# Altium schematic symbol library SBC5.SchLib: 66 symbols (part 4 of 4)
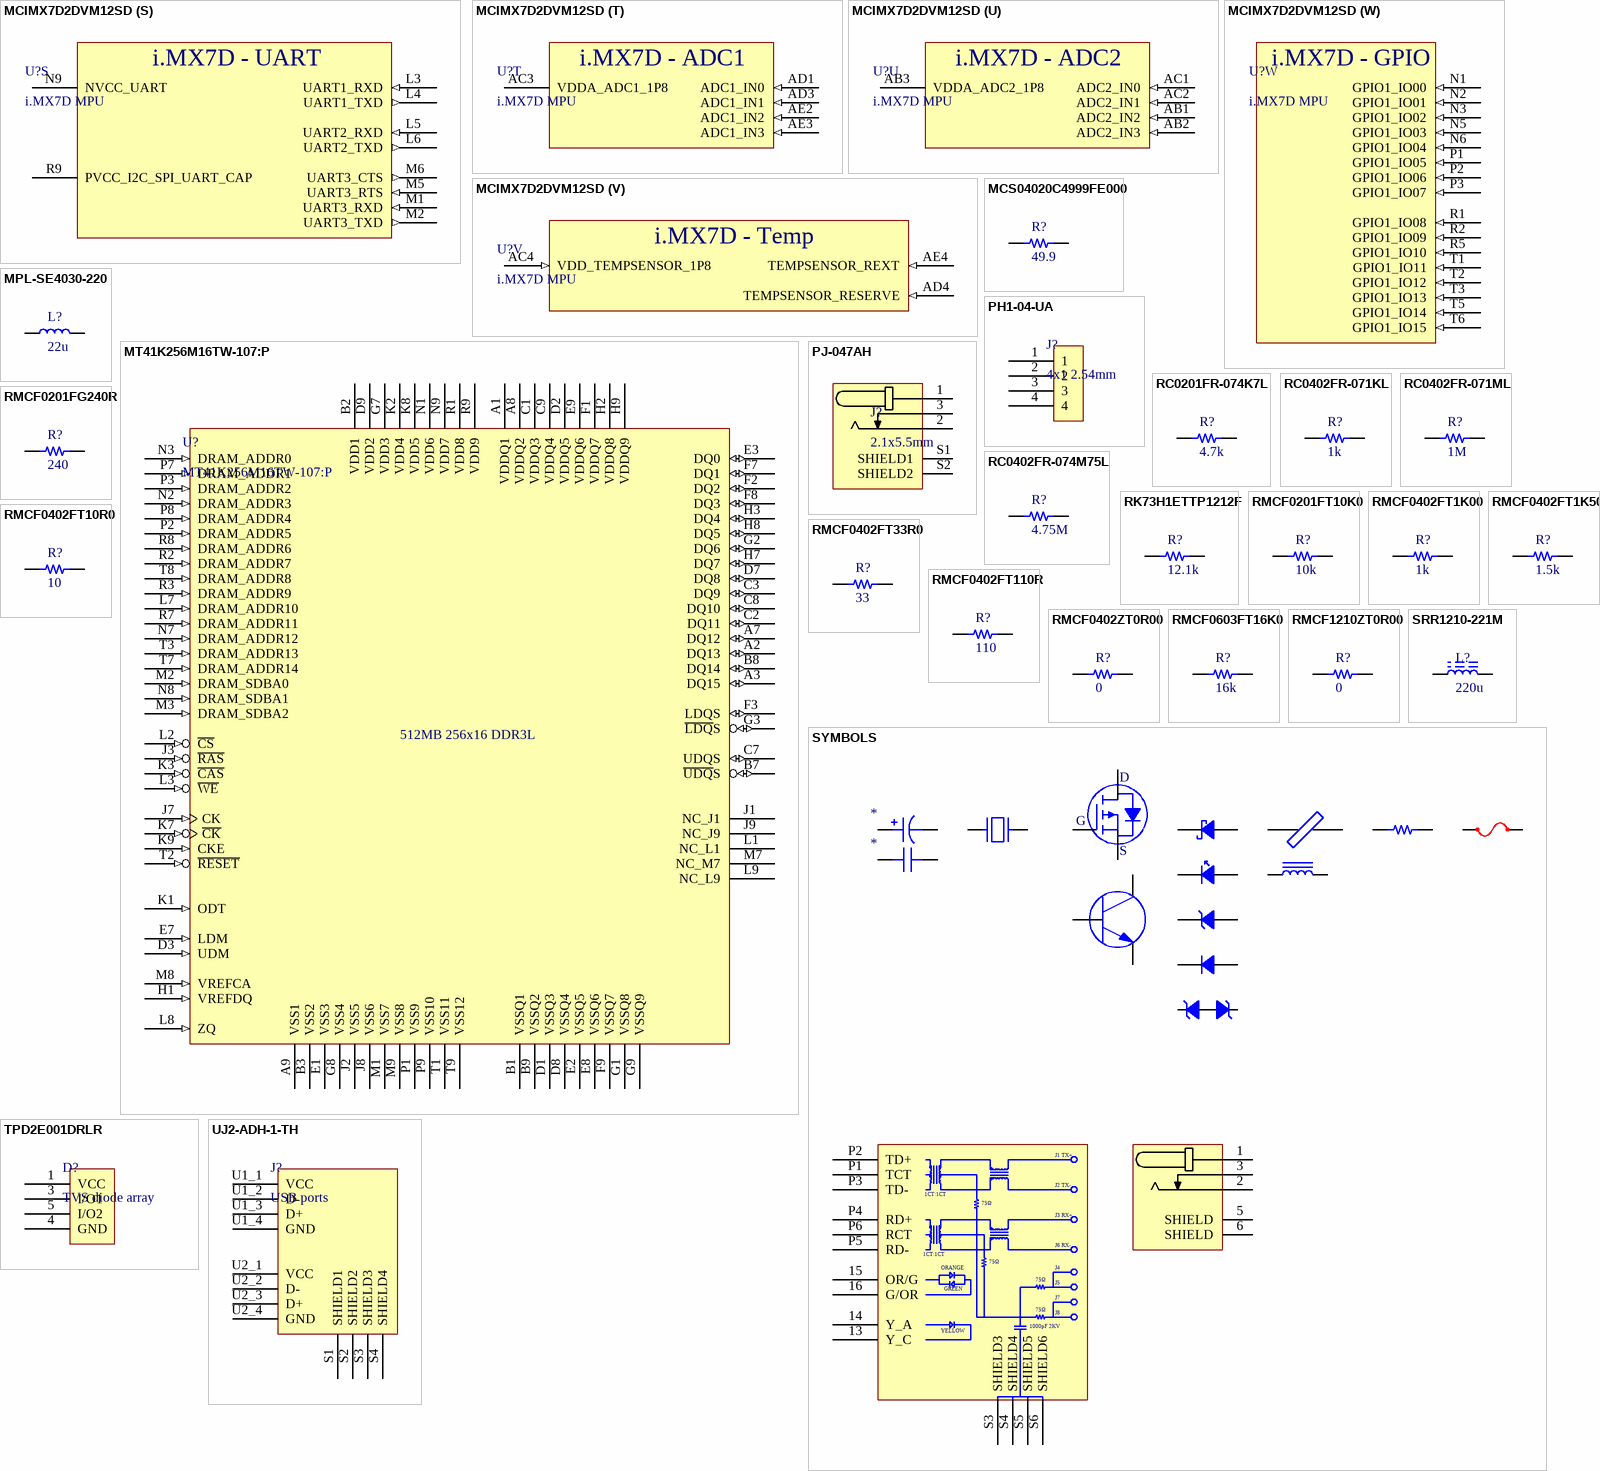
[diagram p6: symbols MCIMX7D2DVM12SD to UJ2-ADH-1-TH]

## RC0201FR-074K7L
designator R?, comment 4.7k
GENERAL 0201 11% REEL (7INCH); Manufacturer: Yageo; Manufacturer Part Number: RC0201FR-074K7L; Resistance: 4.7kR; Tolerance: 1%; Temperature Coefficient: 200ppm/°C; Power Rating: 50mW; Voltage Rating: 25V; Supplier 1: Digi-Key; Supplier Part Number 1: 311-4.70KMCT-ND; RoHS: Yes; Category: Chip SMD Resistors; Stock 1: 1942576; Pricing 1: 1=0.10000, 10=0.03600, 100=0.01480, 1000=0.00665, 2500=0.00577, 5000=0.00477 (USD); Case/Package: 0201; Contact Plating: Tin,Matte; Case Code (Metric): 0603; Case Code (Imperial): 0201; Weight: 6E-06oz; Size Code: 0201; Min Operating Temperature: -55°C; Max Operating Temperature: 125°C; Resistor Type: Thick Film; Packaging: Tape and Reel; Package Quantity: 1; Number of Terminations: 2; Termination: SMD/SMT; Max Power Dissipation: 50mW; Features: Moisture Resistant; Series: RC; Resistance Tolerance: 1%; Construction: Rectangular; Length: 0.6mm; Width: 0.012inch; Height: 0.01inch; Depth: 0.3mm; Radiation Hardening: No; REACH SVHC: Unknown; Military Standard: Not; Lead Free: Lead Free; RoHS Compliant: Yes; ComponentLink1URL: https://datasheet.ciiva.com/2493/pyu-r-int-thick-7-2493811.pdf?src-supplier=Digi-Key; ComponentLink1Description: https://datasheet.ciiva.com/2493/pyu-r-int-thick-7-2493811.pdf?src-supplier=Digi-Key; ComponentLink2URL: https://datasheet.ciiva.com/2493/pyu-r-int-thick-7-2493812.pdf?src-supplier=Digi-Key; ComponentLink2Description: https://datasheet.ciiva.com/2493/pyu-r-int-thick-7-2493812.pdf?src-supplier=Digi-Key; ComponentLink3URL: https://datasheet.ciiva.com/2493/pyu-r-int-thick-7-2493813.pdf?src-supplier=Digi-Key; ComponentLink3Description: https://datasheet.ciiva.com/2493/pyu-r-int-thick-7-2493813.pdf?src-supplier=Digi-Key; ComponentLink4URL: https://datasheet.ciiva.com/7672/1563626-7672233.pdf?src-supplier=Element14; ComponentLink4Description: https://datasheet.ciiva.com/7672/1563626-7672233.pdf?src-supplier=Element14; ComponentLink5URL: https://datasheet.ciiva.com/28410/pyu-rc0201-51-rohs-l-8-28410061.pdf?src-supplier=Avnet+Europe; ComponentLink5Description: https://datasheet.ciiva.com/28410/pyu-rc0201-51-rohs-l-8-28410061.pdf?src-supplier=Avnet+Europe; ComponentLink6URL: https://datasheet.ciiva.com/8892/pyu-rc0201-51-rohs-l-8-8892942.pdf?src-supplier=Avnet; ComponentLink6Description: https://datasheet.ciiva.com/8892/pyu-rc0201-51-rohs-l-8-8892942.pdf?src-supplier=Avnet
footprint R0201 (Chip Resistor, 2-Leads, Body 0.60x0.30mm, IPC Medium Density)
pins: 1, 2

## RC0402FR-071KL
designator R?, comment 1k
Surface Mount Chip Resistor, Thick Film, RC Series, 1 kohm, 62.5 mW, 1%, 50 V, 0402 [1005 Metric]; Manufacturer: Yageo; Manufacturer Part Number: RC0402FR-071KL; Resistance: 1kR; Temperature Coefficient: 100ppm/°C; Voltage Rating (DC): 50V; Power Rating: 62.5mW; Max Power Dissipation: 63mW; Supplier 1: Digi-Key; Supplier Part Number 1: 311-1.00KLRCT-ND; RoHS: Yes; Category: Chip SMD Resistors; Stock 1: 31899023; Pricing 1: 1=0.10000, 10=0.01600, 100=0.00640, 1000=0.00286, 2500=0.00248, 5000=0.00205 (USD); Case/Package: 0402; Number of Pins: 2; Case Code (Imperial): 0402; Case Code (Metric): 1005; Size Code: 0402; Min Operating Temperature: -55°C; Max Operating Temperature: 155°C; Resistor Type: Thick Film; Tolerance: 1%; Packaging: Tape and Reel; Voltage Rating: 50V; Termination: SMD/SMT; Features: Moisture Resistant; Series: RC; Number of Terminations: 2; Resistance Tolerance: 1%; Construction: Rectangular; Technology: THICK FILM; Length: 1mm; Width: 0.5mm; Height: 0.32mm; Depth: 0.5mm; REACH SVHC: Unknown; Lead Free: Lead Free; RoHS Compliant: Yes; Military Standard: Not; ComponentLink1URL: https://datasheet.ciiva.com/11819/0900766b80c66297-11819477.pdf?src-supplier=RSComponents; ComponentLink1Description: https://datasheet.ciiva.com/11819/0900766b80c66297-11819477.pdf?src-supplier=RSComponents; ComponentLink2URL: https://datasheet.ciiva.com/12666/pyu-rc0402-51-rohs-l-6-r-12666741.pdf?src-supplier=Mouser; ComponentLink2Description: https://datasheet.ciiva.com/12666/pyu-rc0402-51-rohs-l-6-r-12666741.pdf?src-supplier=Mouser; ComponentLink3URL: https://datasheet.ciiva.com/17063/pyu-rc0402-51-rohs-l-6-r-17063193.pdf?src-supplier=Future+Electronics; ComponentLink3Description: https://datasheet.ciiva.com/17063/pyu-rc0402-51-rohs-l-6-r-17063193.pdf?src-supplier=Future+Electronics; ComponentLink4URL: https://datasheet.ciiva.com/22747/1018594-22747513.pdf?src-supplier=Element14; ComponentLink4Description: https://datasheet.ciiva.com/22747/1018594-22747513.pdf?src-supplier=Element14; ComponentLink5URL: https://datasheet.ciiva.com/7849/1018594-7849869.pdf?src-supplier=Element14; ComponentLink5Description: https://datasheet.ciiva.com/7849/1018594-7849869.pdf?src-supplier=Element14; ComponentLink6URL: https://datasheet.ciiva.com/7983/1018594-7983502.pdf?src-supplier=Element14; ComponentLink6Description: https://datasheet.ciiva.com/7983/1018594-7983502.pdf?src-supplier=Element14; ComponentLink7URL: https://datasheet.ciiva.com/7849/1018594-7849871.pdf?src-supplier=Element14; ComponentLink7Description: https://datasheet.ciiva.com/7849/1018594-7849871.pdf?src-supplier=Element14
footprint R0402
pins: 1, 2

## RC0402FR-071ML
designator R?, comment 1M
RES SMD 1M OHM 1% 1/16W 0402; Manufacturer: Yageo; Manufacturer Part Number: RC0402FR-071ML; Resistance: 1MR; Power Rating: 63mW; Voltage Rating: 50V; Temperature Coefficient: 100ppm/°C; Supplier 1: Arrow Electronics; Supplier Part Number 1: RC0402FR-071ML; RoHS: Yes; Category: Chip SMD Resistors; Stock 1: 2720000; Pricing 1: 1=0.092200, 10=0.011400, 25=0.009100, 100=0.003800, 250=0.003700, 500=0.003100, 1000=0.002300, 3000=0.002000, 10000=0.001300, 30000=0.001300, 50000=0.001200 (USD); Case/Package: 0402; Case Code (Imperial): 0402; Case Code (Metric): 1005; Size Code: 0402; Min Operating Temperature: -55°C; Max Operating Temperature: 155°C; Resistor Type: Thick Film; Packaging: Tape and Reel; Tolerance: 1%; Termination: SMD/SMT; Features: Moisture Resistant; Series: RC; Max Power Dissipation: 63mW; Number of Terminations: 2; Resistance Tolerance: 1%; Construction: Rectangular; Technology: THICK FILM; Length: 1mm; Height: 0.32mm; Depth: 0.5mm; RoHS Compliant: Yes; REACH SVHC: Unknown; Military Standard: Not; Lead Free: Lead Free; ComponentLink1URL: https://datasheet.ciiva.com/11808/0900766b80c66297-11808125.pdf?src-supplier=RSComponents; ComponentLink1Description: https://datasheet.ciiva.com/11808/0900766b80c66297-11808125.pdf?src-supplier=RSComponents; ComponentLink2URL: https://datasheet.ciiva.com/46394/1018594-46394951.pdf?src-supplier=Element14; ComponentLink2Description: https://datasheet.ciiva.com/46394/1018594-46394951.pdf?src-supplier=Element14; ComponentLink3URL: https://datasheet.ciiva.com/7849/1018594-7849883.pdf?src-supplier=Element14; ComponentLink3Description: https://datasheet.ciiva.com/7849/1018594-7849883.pdf?src-supplier=Element14; ComponentLink4URL: https://datasheet.ciiva.com/16741/pyu-rc0402-51-rohs-l-6-r-16741081.pdf?src-supplier=Future+Electronics; ComponentLink4Description: https://datasheet.ciiva.com/16741/pyu-rc0402-51-rohs-l-6-r-16741081.pdf?src-supplier=Future+Electronics; ComponentLink5URL: https://datasheet.ciiva.com/7849/1018594-7849882.pdf?src-supplier=Element14; ComponentLink5Description: https://datasheet.ciiva.com/7849/1018594-7849882.pdf?src-supplier=Element14
footprint R0402
pins: 1, 2

## RC0402FR-074M75L
designator R?, comment 4.75M
Thick Film Resistors - SMD 4.75M OHM 1%; Manufacturer: Yageo; Manufacturer Part Number: RC0402FR-074M75L; Resistance: 4.75MR; Temperature Coefficient: 100ppm/°C; Power Rating: 62.5mW; Voltage Rating: 50V; Max Power Dissipation: 63mW; Supplier 1: Digi-Key; Supplier Part Number 1: 13-RC0402FR-074M75LCT-ND; RoHS: Yes; Category: Chip SMD Resistors; Stock 1: 19791; Pricing 1: 1=0.10000, 10=0.01400, 100=0.00580, 1000=0.00260, 2500=0.00226, 5000=0.00186 (USD); Case/Package: 0402; Contact Plating: Tin,Matte; Case Code (Imperial): 0402; Case Code (Metric): 1005; Min Operating Temperature: -55°C; Max Operating Temperature: 155°C; Tolerance: 1%; Resistor Type: Thick Film; Packaging: Tape and Reel; Number of Terminations: 2; Termination: SMD/SMT; Features: Moisture Resistant; Series: RC; Length: 0.039inch; Width: 0.02inch; Height: 0.016inch; RoHS Compliant: Yes; ComponentLink1URL: https://datasheet.ciiva.com/28409/pyu-rc0402-51-rohs-l-6-28409879.pdf?src-supplier=Avnet+Europe; ComponentLink1Description: https://datasheet.ciiva.com/28409/pyu-rc0402-51-rohs-l-6-28409879.pdf?src-supplier=Avnet+Europe; ComponentLink2URL: https://datasheet.ciiva.com/16867/pyu-rc0402-51-rohs-l-6-16867754.pdf?src-supplier=Avnet+Europe; ComponentLink2Description: https://datasheet.ciiva.com/16867/pyu-rc0402-51-rohs-l-6-16867754.pdf?src-supplier=Avnet+Europe; ComponentLink3URL: https://datasheet.ciiva.com/12560/pyu-rc0402-51-rohs-l-6-r-8721-12560812.pdf?src-supplier=Mouser; ComponentLink3Description: https://datasheet.ciiva.com/12560/pyu-rc0402-51-rohs-l-6-r-8721-12560812.pdf?src-supplier=Mouser; ComponentLink4URL: https://datasheet.ciiva.com/8892/pyu-rc0402-51-rohs-l-6-8892877.pdf?src-supplier=Avnet; ComponentLink4Description: https://datasheet.ciiva.com/8892/pyu-rc0402-51-rohs-l-6-8892877.pdf?src-supplier=Avnet
footprint R0402
pins: 1, 2

## RK73H1ETTP1212F
designator R?, comment 12.1k
Res Thick Film 0402 12.1K Ohm 1% 0.063W ±100ppm/°C Molded SMD Punched Paper T/R; Manufacturer: KOA Speer; Manufacturer Part Number: RK73H1ETTP1212F; Resistance: 12.1kR; Power Rating: 63mW; Voltage Rating: 50V; Supplier 1: Digi-Key; Supplier Part Number 1: 2019-RK73H1ETTP1212FCT-ND; RoHS: Yes; Category: Chip SMD Resistors; Stock 1: 203450; Pricing 1: 1=0.10000, 10=0.02200, 100=0.00890, 1000=0.00398, 2500=0.00345, 5000=0.00285 (USD); Mount: Surface Mount; Case/Package: 0402; Case Code (Imperial): 0402; Case Code (Metric): 1005; Min Operating Temperature: -55°C; Max Operating Temperature: 155°C; Tolerance: 1%; Packaging: Tape and Reel; Package Quantity: 10000; Resistor Type: Thick Film; Termination: SMD/SMT; Temperature Coefficient: 100ppm/°C; Voltage Rating (DC): 50V; Length: 1mm; Width: 0.5mm; Height: 0.35mm; Depth: 0.5mm; Military Standard: Not; Lead Free: Lead Free; ComponentLink1URL: https://datasheet.ciiva.com/5555/rk73h-5555974.pdf?src-supplier=Mouser; ComponentLink1Description: https://datasheet.ciiva.com/5555/rk73h-5555974.pdf?src-supplier=Mouser
footprint R0402
pins: 1, 2

## RMCF0201FG240R
designator R?, comment 240
RES 240 OHM 1% 1/20W 0201; Manufacturer: Stackpole Electronics; Manufacturer Part Number: RMCF0201FG240R; Max Power Dissipation: 50mW; Temperature Coefficient: 200ppm/°C; Resistance: 240R; Supplier 1: Digi-Key; RoHS: Yes; Category: Chip SMD Resistors; Stock 1: 229468; Pricing 1: 1=0.10000, 10=0.02300, 100=0.00940, 1000=0.00424, 2500=0.00368, 5000=0.00304 (USD); Case/Package: 0201; Case Code (Imperial): 0201; Case Code (Metric): 0603; Min Operating Temperature: -55°C; Max Operating Temperature: 125°C; Tolerance: 1%; Packaging: Tape and Reel; Resistor Type: Thick Film; Number of Terminations: 2; Length: 0.024inch; Width: 0.012inch; Height: 0.009inch; ComponentLink1URL: https://www.seielect.com/Catalog/SEI-RMCF_RMCP.pdf?src-supplier=Digi-Key; ComponentLink1Description: https://www.seielect.com/Catalog/SEI-RMCF_RMCP.pdf?src-supplier=Digi-Key; ComponentLink2URL: https://www.seielect.com/catalog/SEI-Packaging.pdf?src-supplier=Digi-Key; ComponentLink2Description: https://www.seielect.com/catalog/SEI-Packaging.pdf?src-supplier=Digi-Key; Supplier Part Number 1: RMCF0201FG240RCT-ND
footprint R0201 (Chip Resistor, 2-Leads, Body 0.60x0.30mm, IPC Medium Density)
pins: 1, 2

## RMCF0201FT10K0
designator R?, comment 10k
RES 10K OHM 1% 1/20W 0201; Manufacturer: Stackpole Electronics; Manufacturer Part Number: RMCF0201FT10K0; Max Power Dissipation: 50mW; Temperature Coefficient: 200ppm/°C; Resistance: 10kR; Supplier 1: Digi-Key; RoHS: Yes; Category: Chip SMD Resistors; Stock 1: 1526173; Pricing 1: 1=0.10000, 10=0.02300, 100=0.00940, 1000=0.00424, 2500=0.00368, 5000=0.00304 (USD); Mount: Surface Mount; Case/Package: 0201; Contact Plating: Tin,Matte; Case Code (Imperial): 0201; Case Code (Metric): 0603; Min Operating Temperature: -55°C; Max Operating Temperature: 125°C; Resistor Type: Thick Film; Number of Terminations: 2; Packaging: Tape and Reel; Tolerance: 1%; Power Rating: 50mW; Length: 0.024inch; Width: 0.012inch; Height: 0.009inch; ComponentLink1URL: https://www.seielect.com/catalog/SEI-Packaging.pdf?src-supplier=Digi-Key; ComponentLink1Description: https://www.seielect.com/catalog/SEI-Packaging.pdf?src-supplier=Digi-Key; ComponentLink2URL: https://www.seielect.com/Catalog/SEI-RMCF_RMCP.pdf?src-supplier=Avnet+Asia; ComponentLink2Description: https://www.seielect.com/Catalog/SEI-RMCF_RMCP.pdf?src-supplier=Avnet+Asia; ComponentLink3URL: https://www.seielect.com/Catalog/SEI-RMCF_RMCP.pdf?src-supplier=Avnet; ComponentLink3Description: https://www.seielect.com/Catalog/SEI-RMCF_RMCP.pdf?src-supplier=Avnet; ComponentLink4URL: https://www.seielect.com/Catalog/SEI-RMCF_RMCP.pdf?src-supplier=Digi-Key; ComponentLink4Description: https://www.seielect.com/Catalog/SEI-RMCF_RMCP.pdf?src-supplier=Digi-Key; Supplier Part Number 1: RMCF0201FT10K0CT-ND
footprint R0201 (Chip Resistor, 2-Leads, Body 0.60x0.30mm, IPC Medium Density)
pins: 1, 2

## RMCF0402FT1K00
designator R?, comment 1k
RES 1K OHM 1% 1/16W 0402; Manufacturer: Stackpole Electronics; Manufacturer Part Number: RMCF0402FT1K00; Resistance: 1kR; Power Rating: 63mW; Temperature Coefficient: 100ppm/°C; RoHS: Yes; Category: Chip SMD Resistors; Stock 1: 4274; Pricing 1: 1=0.10000, 10=0.01300, 100=0.00530, 1000=0.00239, 2500=0.00207, 5000=0.00171 (USD); Mount: Surface Mount; Case/Package: 0402; Case Code (Metric): 1005; Case Code (Imperial): 0402; Contact Plating: Tin,Matte; Size Code: 0402; Min Operating Temperature: -55°C; Max Operating Temperature: 155°C; Tolerance: 1%; Packaging: Tape and Reel; Resistor Type: Thick Film; Number of Terminations: 2; Max Power Dissipation: 63mW; Features: Automotive AEC-Q200; Series: RMCF; Construction: Rectangular; Length: 1mm; Width: 0.02inch; Height: 0.016inch; Depth: 0.5mm; Radiation Hardening: No; Military Standard: Not; Lead Free: Lead Free; RoHS Compliant: Yes; ComponentLink1URL: https://datasheet.ciiva.com/15193/getdatasheetpartid-365385-15193418.pdf?src-supplier=Verical; ComponentLink1Description: https://datasheet.ciiva.com/15193/getdatasheetpartid-365385-15193418.pdf?src-supplier=Verical; ComponentLink2URL: https://datasheet.ciiva.com/24336/sei-rmcp-24336266.pdf?src-supplier=Onlinecomponents.com; ComponentLink2Description: https://datasheet.ciiva.com/24336/sei-rmcp-24336266.pdf?src-supplier=Onlinecomponents.com; Supplier 1: Digi-Key; Supplier Part Number 1: RMCF0402FT1K00CT-ND; Supplier 2: Future Electronics; Supplier Part Number 2: 4098822
footprint R0402
pins: 1, 2

## RMCF0402FT1K50
designator R?, comment 1.5k
RES 1.5K OHM 1% 1/16W 0402; Manufacturer: Stackpole Electronics; Manufacturer Part Number: RMCF0402FT1K50; Resistance: 1.5kR; Power Rating: 62.5mW; Max Power Dissipation: 63mW; Temperature Coefficient: 100ppm/°C; Supplier 1: Digi-Key; Supplier Part Number 1: RMCF0402FT1K50CT-ND; RoHS: Yes; Category: Chip SMD Resistors; Stock 1: 378149; Pricing 1: 1=0.10000, 10=0.01300, 100=0.00530, 1000=0.00239, 2500=0.00207, 5000=0.00171 (USD); Mount: Surface Mount; Case/Package: 0402; Case Code (Imperial): 0402; Contact Plating: Tin,Matte; Case Code (Metric): 1005; Min Operating Temperature: -55°C; Max Operating Temperature: 155°C; Tolerance: 1%; Packaging: Tape and Reel; Resistor Type: Thick Film; Number of Terminations: 2; Features: Automotive AEC-Q200; Length: 0.039inch; Width: 0.02inch; Height: 0.016inch; Radiation Hardening: No; Lead Free: Lead Free; ComponentLink1URL: http://components.arrow.com/part/dataview/44988063S7520342N1174?src-supplier=Arrow+Electronics; ComponentLink1Description: http://components.arrow.com/part/dataview/44988063S7520342N1174?src-supplier=Arrow+Electronics; ComponentLink2URL: https://www.seielect.com/catalog/SEI-Packaging.pdf?src-supplier=Digi-Key; ComponentLink2Description: https://www.seielect.com/catalog/SEI-Packaging.pdf?src-supplier=Digi-Key; ComponentLink3URL: https://www.seielect.com/catalog/SEI-RMCF_RMCP.pdf?src-supplier=Avnet+Asia; ComponentLink3Description: https://www.seielect.com/catalog/SEI-RMCF_RMCP.pdf?src-supplier=Avnet+Asia; ComponentLink4URL: https://www.seielect.com/catalog/SEI-RMCF_RMCP.pdf?src-supplier=Avnet; ComponentLink4Description: https://www.seielect.com/catalog/SEI-RMCF_RMCP.pdf?src-supplier=Avnet
footprint R0402
pins: 1, 2

## RMCF0402FT10R0
designator R?, comment 10
RES 10 OHM 1% 1/16W 0402; Manufacturer: Stackpole Electronics; Manufacturer Part Number: RMCF0402FT10R0; Resistance: 10R; Power Rating: 63mW; Temperature Coefficient: 100ppm/°C; Supplier 1: Digi-Key; Supplier Part Number 1: RMCF0402FT10R0CT-ND; RoHS: Yes; Category: Chip SMD Resistors; Stock 1: 588325; Pricing 1: 1=0.10000, 10=0.01300, 100=0.00530, 1000=0.00239, 2500=0.00207, 5000=0.00171 (USD); Mount: Surface Mount; Case/Package: 0402; Contact Plating: Tin,Matte; Case Code (Imperial): 0402; Case Code (Metric): 1005; Min Operating Temperature: -55°C; Max Operating Temperature: 155°C; Tolerance: 1%; Packaging: Tape and Reel; Max Power Dissipation: 63mW; Features: Automotive AEC-Q200; Resistor Type: Thick Film; Number of Terminations: 2; Length: 1mm; Width: 0.02inch; Height: 0.016inch; Depth: 0.5mm; Radiation Hardening: No; Lead Free: Lead Free; Military Standard: Not; ComponentLink1URL: http://components.arrow.com/part/dataview/44988361S6966751N1174?src-supplier=Arrow+Electronics; ComponentLink1Description: http://components.arrow.com/part/dataview/44988361S6966751N1174?src-supplier=Arrow+Electronics; ComponentLink2URL: https://www.seielect.com/catalog/SEI-RMCF_RMCP.pdf?src-supplier=Avnet; ComponentLink2Description: https://www.seielect.com/catalog/SEI-RMCF_RMCP.pdf?src-supplier=Avnet; ComponentLink3URL: https://www.seielect.com/catalog/SEI-Packaging.pdf?src-supplier=Digi-Key; ComponentLink3Description: https://www.seielect.com/catalog/SEI-Packaging.pdf?src-supplier=Digi-Key; ComponentLink4URL: http://www.seielect.com/Catalog/SEI-RMCF_RMCP.pdf?src-supplier=Future+Electronics; ComponentLink4Description: http://www.seielect.com/Catalog/SEI-RMCF_RMCP.pdf?src-supplier=Future+Electronics
footprint R0402
pins: 1, 2

## RMCF0402FT33R0
designator R?, comment 33
RES 33 OHM 1% 1/16W 0402; Manufacturer: Stackpole Electronics; Manufacturer Part Number: RMCF0402FT33R0; Resistance: 33R; Max Power Dissipation: 63mW; Temperature Coefficient: 100ppm/°C; Supplier 1: Digi-Key; Supplier Part Number 1: RMCF0402FT33R0CT-ND; RoHS: Yes; Category: Chip SMD Resistors; Stock 1: 993457; Pricing 1: 1=0.10000, 10=0.01300, 100=0.00530, 1000=0.00239, 2500=0.00207, 5000=0.00171 (USD); Mount: Surface Mount; Case/Package: 0402; Case Code (Metric): 1005; Case Code (Imperial): 0402; Contact Plating: Tin,Matte; Min Operating Temperature: -55°C; Max Operating Temperature: 155°C; Features: Automotive AEC-Q200; Package Quantity: 1; Resistor Type: Thick Film; Number of Terminations: 2; Packaging: Tape and Reel; Tolerance: 1%; Length: 0.039inch; Width: 0.02inch; Height: 0.016inch; Radiation Hardening: No; Lead Free: Lead Free; ComponentLink1URL: https://www.seielect.com/catalog/SEI-RMCF_RMCP.pdf?src-supplier=Avnet; ComponentLink1Description: https://www.seielect.com/catalog/SEI-RMCF_RMCP.pdf?src-supplier=Avnet; ComponentLink2URL: https://www.seielect.com/catalog/SEI-Packaging.pdf?src-supplier=Digi-Key; ComponentLink2Description: https://www.seielect.com/catalog/SEI-Packaging.pdf?src-supplier=Digi-Key; ComponentLink3URL: https://www.seielect.com/Catalog/SEI-RMCF_RMCP.pdf?src-supplier=Digi-Key; ComponentLink3Description: https://www.seielect.com/Catalog/SEI-RMCF_RMCP.pdf?src-supplier=Digi-Key
footprint R0402
pins: 1, 2

## RMCF0402FT110R
designator R?, comment 110
Res Thick Film 0402 110 Ohm 1% 0.063W(1/16W) ±100ppm/C Pad SMD Automotive T/R; Manufacturer: Stackpole Electronics; Manufacturer Part Number: RMCF0402FT110R; Resistance: 110R; Max Power Dissipation: 63mW; Temperature Coefficient: 100ppm/°C; Supplier 1: Digi-Key; Supplier Part Number 1: RMCF0402FT110RCT-ND; RoHS: Yes; Category: Chip SMD Resistors; Stock 1: 98158; Pricing 1: 1=0.10000, 10=0.01300, 100=0.00530, 1000=0.00239, 2500=0.00207, 5000=0.00171 (USD); Mount: Surface Mount; Case/Package: 0402; Case Code (Metric): 1005; Case Code (Imperial): 0402; Contact Plating: Tin,Matte; Min Operating Temperature: -55°C; Max Operating Temperature: 155°C; Packaging: Tape and Reel; Tolerance: 1%; Package Quantity: 1; Resistor Type: Thick Film; Number of Terminations: 2; Features: Automotive AEC-Q200; Series: RMCF; Length: 0.039inch; Width: 0.02inch; Height: 0.016inch; Lead Free: Lead Free; RoHS Compliant: Yes; ComponentLink1URL: https://www.seielect.com/Catalog/SEI-RMCF_RMCP.pdf?src-supplier=Avnet; ComponentLink1Description: https://www.seielect.com/Catalog/SEI-RMCF_RMCP.pdf?src-supplier=Avnet; ComponentLink2URL: https://www.seielect.com/Catalog/SEI-RMCF_RMCP.pdf?src-supplier=Digi-Key; ComponentLink2Description: https://www.seielect.com/Catalog/SEI-RMCF_RMCP.pdf?src-supplier=Digi-Key; ComponentLink3URL: https://www.seielect.com/catalog/SEI-Packaging.pdf?src-supplier=Digi-Key; ComponentLink3Description: https://www.seielect.com/catalog/SEI-Packaging.pdf?src-supplier=Digi-Key
footprint R0402
pins: 1, 2

## RMCF0402ZT0R00
designator R?, comment 0
RES 0 OHM JUMPER 1/16W 0402; Manufacturer: Stackpole Electronics; Manufacturer Part Number: RMCF0402ZT0R00; Resistance: 0R; Power Rating: 63mW; Current Rating: 1A; Working Voltage: 50V; Supplier 1: Digi-Key; Supplier Part Number 1: RMCF0402ZT0R00CT-ND; RoHS: Yes; Category: Chip SMD Resistors; Stock 1: 7645981; Pricing 1: 1=0.10000, 10=0.01000, 25=0.00720, 50=0.00560, 100=0.00410, 250=0.00316, 500=0.00252, 1000=0.00186, 5000=0.00133 (USD); Mount: Surface Mount; Case/Package: 0402; Case Code (Metric): 1005; Case Code (Imperial): 0402; Contact Plating: Tin,Matte; Min Operating Temperature: -55°C; Max Operating Temperature: 155°C; Packaging: Tape and Reel; Resistor Type: Thick Film; Number of Terminations: 2; Max Power Dissipation: 63mW; Features: Automotive AEC-Q200; Series: RMCF; Technology: THICK FILM; Construction: Rectangular; Length: 0.039inch; Width: 0.02inch; Height: 0.016inch; Depth: 0.5mm; Radiation Hardening: No; Military Standard: Not; Lead Free: Lead Free; RoHS Compliant: Yes; ComponentLink1URL: https://datasheet.ciiva.com/26835/getdatasheetpartid-409751-26835612.pdf?src-supplier=Verical; ComponentLink1Description: https://datasheet.ciiva.com/26835/getdatasheetpartid-409751-26835612.pdf?src-supplier=Verical
footprint R0402
pins: 1, 2

## RMCF0603FT16K0
designator R?, comment 16k
RES SMD 16K OHM 1% 1/10W 0603; Manufacturer: Stackpole Electronics; Manufacturer Part Number: RMCF0603FT16K0; Resistance: 16kR; Max Power Dissipation: 100mW; Temperature Coefficient: 100ppm/°C; Supplier 1: Arrow Electronics; Supplier Part Number 1: RMCF0603FT16K0; RoHS: Yes; Category: Chip SMD Resistors; Mount: Surface Mount; Case/Package: 0603; Case Code (Metric): 1608; Case Code (Imperial): 0603; Contact Plating: Tin,Matte; Min Operating Temperature: -55°C; Max Operating Temperature: 155°C; Packaging: Tape and Reel; Tolerance: 1%; Resistor Type: Thick Film; Number of Terminations: 2; Features: Automotive AEC-Q200; Series: RMCF; Length: 0.061inch; Width: 0.031inch; Height: 0.022inch; Radiation Hardening: No; Lead Free: Lead Free; RoHS Compliant: Yes; ComponentLink1URL: http://components.arrow.com/part/dataview/50862390S111928N1174?src-supplier=Arrow+Electronics; ComponentLink1Description: http://components.arrow.com/part/dataview/50862390S111928N1174?src-supplier=Arrow+Electronics; ComponentLink2URL: https://www.seielect.com/catalog/SEI-RMCF_RMCP.pdf?src-supplier=Avnet; ComponentLink2Description: https://www.seielect.com/catalog/SEI-RMCF_RMCP.pdf?src-supplier=Avnet; ComponentLink3URL: https://www.seielect.com/Catalog/SEI-RMCF_RMCP.pdf?src-supplier=Digi-Key; ComponentLink3Description: https://www.seielect.com/Catalog/SEI-RMCF_RMCP.pdf?src-supplier=Digi-Key; ComponentLink4URL: https://www.seielect.com/catalog/SEI-Packaging.pdf?src-supplier=Digi-Key; ComponentLink4Description: https://www.seielect.com/catalog/SEI-Packaging.pdf?src-supplier=Digi-Key
footprint R0603
pins: 1, 2

## RMCF1210ZT0R00
designator R?, comment 0
RES 0.0 OHM 1/2W 1210 SMD; Manufacturer: Stackpole Electronics; Manufacturer Part Number: RMCF1210ZT0R00; Resistance: 0mR; Power Rating: 330mW; Max Power Dissipation: 500mW; Tolerance: 1%; Supplier 1: Digi-Key; Supplier Part Number 1: RMCF1210ZT0R00CT-ND; RoHS: Yes; Category: Chip SMD Resistors; Stock 1: 487458; Pricing 1: 1=0.10000, 10=0.09100, 25=0.06320, 50=0.04900, 100=0.03500, 250=0.02732, 500=0.02170, 1000=0.01540 (USD); Mount: Surface Mount; Case/Package: 1210; Case Code (Metric): 3225; Contact Plating: Tin,Matte; Case Code (Imperial): 1210; Min Operating Temperature: -55°C; Max Operating Temperature: 155°C; Packaging: Tape and Reel; Resistor Type: Thick Film; Number of Terminations: 2; Features: Automotive AEC-Q200; Length: 0.126inch; Width: 0.098inch; Height: 0.028inch; Radiation Hardening: No; Lead Free: Lead Free; ComponentLink1URL: https://www.seielect.com/Catalog/SEI-RMCF_RMCP.pdf?src-supplier=Digi-Key; ComponentLink1Description: https://www.seielect.com/Catalog/SEI-RMCF_RMCP.pdf?src-supplier=Digi-Key; ComponentLink2URL: https://www.seielect.com/catalog/SEI-RMCF_RMCP.pdf?src-supplier=Avnet; ComponentLink2Description: https://www.seielect.com/catalog/SEI-RMCF_RMCP.pdf?src-supplier=Avnet
footprint R1210
pins: 1, 2

## SRR1210-221M
designator L?, comment 220u
Inductor Power Shielded Wirewound 220uH 20% 1KHz 15Q-Factor Ferrite 1.7A 315mOhm DCR T/R; Manufacturer: Bourns; Manufacturer Part Number: SRR1210-221M; DC Resistance (DCR): 315mR; Q Factor: 15; Self Resonant Frequency: 1.8MHz; Saturation Current: 1.5A; Test Frequency: 100kHz; Current: 8.5A; Supplier 1: Digi-Key; Supplier Part Number 1: SRR1210-221MCT-ND; RoHS: Yes; Category: Fixed Inductors; Stock 1: 7209; Pricing 1: 1=1.27000, 10=1.18000, 25=1.08920, 50=0.90760, 100=0.85310 (USD); Mount: Surface Mount; Case/Package: Nonstandard; Core Material: Ferrite; Weight: 0.169315oz; Min Operating Temperature: -40°C; Max Operating Temperature: 125°C; Tolerance: 20%; Inductance: 220uH; Max DC Current: 1.7A; Shielding: Shielded; Packaging: Tape and Reel; Package Quantity: 250; Current Rating: 1.7A; Resistor Type: Wirewound; Termination: SMD/SMT; DC Current: 1.7A; Inductance Tolerance: 20%; RMS Current (Irms): 1.7A; Length: 12mm; Width: 0.472inch; Height: 10mm; Height - Seated (Max): 0.394inch; Depth: 12.5mm; Military Standard: Not; REACH SVHC: No SVHC; ComponentLink1URL: https://datasheet.ciiva.com/11802/0900766b80f2b72a-11802937.pdf?src-supplier=RSComponents; ComponentLink1Description: https://datasheet.ciiva.com/11802/0900766b80f2b72a-11802937.pdf?src-supplier=RSComponents; ComponentLink2URL: https://datasheet.ciiva.com/4955/srr1210-60886-4955655.pdf?src-supplier=Mouser; ComponentLink2Description: https://datasheet.ciiva.com/4955/srr1210-60886-4955655.pdf?src-supplier=Mouser; ComponentLink3URL: https://datasheet.ciiva.com/6704/srr1210-6704183.pdf?src-supplier=Digi-Key; ComponentLink3Description: https://datasheet.ciiva.com/6704/srr1210-6704183.pdf?src-supplier=Digi-Key; ComponentLink4URL: https://datasheet.ciiva.com/6704/srr1210-6704184.pdf?src-supplier=Digi-Key; ComponentLink4Description: https://datasheet.ciiva.com/6704/srr1210-6704184.pdf?src-supplier=Digi-Key; ComponentLink5URL: https://datasheet.ciiva.com/6704/srr1210-6704185.pdf?src-supplier=Digi-Key; ComponentLink5Description: https://datasheet.ciiva.com/6704/srr1210-6704185.pdf?src-supplier=Digi-Key; ComponentLink6URL: https://datasheet.ciiva.com/17111/70277039-17111754.pdf?src-supplier=Allied+Electronics; ComponentLink6Description: https://datasheet.ciiva.com/17111/70277039-17111754.pdf?src-supplier=Allied+Electronics; ComponentLink7URL: https://datasheet.ciiva.com/48684/srr1210-48684604.pdf?src-supplier=Avnet; ComponentLink7Description: https://datasheet.ciiva.com/48684/srr1210-48684604.pdf?src-supplier=Avnet
footprint L1210
pins: 1, 2

## SYMBOLS
designator *
pins: 1, 1, 1, 1 G, 1 "C", 1 B, 1, 1, 1, 1, 1, 1, 1, 1, 2, 2, 2 S, 2 "A", 2 E, 2, 2, 2, 2, 2, 2, 2, 3 D, 3 C, 3, 3, 4, 5 SHIELD, 6 SHIELD, 13 Y_C "Default Function: MIPI_VDDA_1P8", 14 Y_A "Default Function: MIPI_VDDA_1P8", 15 OR/G "Default Function: MIPI_VDDA_1P8", 16 G/OR "Default Function: MIPI_VDDA_1P8", A, K, P1 TCT "Default Function: MIPI_VDDA_1P8", P2 TD+ "Default Function: MIPI_VDDA_1P8", P3 TD- "Default Function: MIPI_VDDA_1P8", P4 RD+ "Default Function: MIPI_VDDA_1P8", P5 RD- "Default Function: MIPI_VDDA_1P8", P6 RCT "Default Function: MIPI_VDDA_1P8", S3 SHIELD3 "Default Function: MIPI_VDDA_1P8", S4 SHIELD4 "Default Function: MIPI_VDDA_1P8", S5 SHIELD5 "Default Function: MIPI_VDDA_1P8", S6 SHIELD6 "Default Function: MIPI_VDDA_1P8"
text: J1 TX+; J2 TX-; 1CT:1CT; 75Ω; J3 RX+; J6 RX-; ORANGE; J4; J5; GREEN; J7; J8; YELLOW; 1000pF 2KV

## TPD2E001DRLR
designator D?, comment TVS diode array
TEXAS INSTRUMENTS - TPD2E001DRLR - ESD Protection Device, 105.5 V, SOT, 5 Pins, 5.5 V, TPD2E Series; Direction: Unidirectional; Capacitance: 1.5pF; Number of Channels: 2; Breakdown Voltage: 11V; Clamping Voltage: 105.5V; Reverse Standoff Voltage: 5.5V; Power Line Protection: Yes; Leakage Current: 1nA; Element Configuration: Dual; Interface: LVDS,USB,Ethernet; Min Supply Voltage: 900mV; Peak Pulse Current: 10A; Manufacturer: Texas Instruments; Manufacturer Part Number: TPD2E001DRLR; RoHS: Yes; Category: Interface ICs; Stock 1: 42050; Pricing 1: 1=0.56000, 10=0.47900, 100=0.33280, 500=0.26880 (USD); Case/Package: SOT; Number of Pins: 5; Weight: 9.9E-05oz; Contact Plating: Gold; Min Operating Temperature: -40°C; Max Operating Temperature: 85°C; Package Quantity: 1; Polarity: Unidirectional; Packaging: Tape and Reel; Number of Bidirectional Channels: 2; Min Breakdown Voltage: 11V; Max Supply Voltage: 5.5V; Termination: SMD/SMT; Working Voltage: 5.5V; Length: 1.6mm; Width: 1.2mm; Height: 0.55mm; Depth: 1.2mm; Radiation Hardening: No; Lead Free: Lead Free; REACH SVHC: No SVHC; ComponentLink1URL: https://datasheet.ciiva.com/4479/slls684f-121568-4479427.pdf?src-supplier=Mouser; ComponentLink1Description: https://datasheet.ciiva.com/4479/slls684f-121568-4479427.pdf?src-supplier=Mouser; ComponentLink2URL: https://datasheet.ciiva.com/15134/getdatasheetpartid-186217-15134447.pdf?src-supplier=Verical; ComponentLink2Description: https://datasheet.ciiva.com/15134/getdatasheetpartid-186217-15134447.pdf?src-supplier=Verical; ComponentLink3URL: https://datasheet.ciiva.com/25955/tpd2e001-25955782.pdf?src-supplier=Avnet+Europe; ComponentLink3Description: https://datasheet.ciiva.com/25955/tpd2e001-25955782.pdf?src-supplier=Avnet+Europe; ComponentLink4URL: https://datasheet.ciiva.com/338/tpd2e001-338329.pdf?src-supplier=Digi-Key; ComponentLink4Description: https://datasheet.ciiva.com/338/tpd2e001-338329.pdf?src-supplier=Digi-Key; ComponentLink5URL: https://datasheet.ciiva.com/7650/1851973-7650906.pdf?src-supplier=Element14; ComponentLink5Description: https://datasheet.ciiva.com/7650/1851973-7650906.pdf?src-supplier=Element14; ComponentLink6URL: https://datasheet.ciiva.com/14423/tpd2e001-14423679.pdf?src-supplier=Avnet; ComponentLink6Description: https://datasheet.ciiva.com/14423/tpd2e001-14423679.pdf?src-supplier=Avnet; ComponentLink7URL: https://datasheet.ciiva.com/16476/tpd2e001-16476822.pdf?src-supplier=Avnet+Asia; ComponentLink7Description: https://datasheet.ciiva.com/16476/tpd2e001-16476822.pdf?src-supplier=Avnet+Asia; ComponentLink8URL: https://datasheet.ciiva.com/338/tpd2e001-338328.pdf?src-supplier=Digi-Key; ComponentLink8Description: https://datasheet.ciiva.com/338/tpd2e001-338328.pdf?src-supplier=Digi-Key; ComponentLink9URL: https://datasheet.ciiva.com/338/tpd2e001-338330.pdf?src-supplier=Digi-Key; ComponentLink9Description: https://datasheet.ciiva.com/338/tpd2e001-338330.pdf?src-supplier=Digi-Key; Supplier 1: Digi-Key; Supplier Part Number 1: 296-21883-1-ND; Supplier 2: Arrow Electronics; Supplier Part Number 2: TPD2E001DRLR; Supplier 3: Mouser; Supplier Part Number 3: 595-TPD2E001DRLR
footprint TPD2E001DRLR
pins: 1 VCC, 3 I/O1, 4 GND, 5 I/O2

## UJ2-ADH-1-TH
designator J?, comment USB ports
CONN RCPT USB2.0 TYPEA STACK R/A; Manufacturer: CUI; Manufacturer Part Number: UJ2-ADH-1-TH; Connector Type: Jack; Number of Contacts: 8; Gender: Receptacle; Supplier 1: Digi-Key; Supplier Part Number 1: 102-4001-ND; RoHS: No; Category: Connectors; Stock 1: 1615; Pricing 1: 1=0.95000, 10=0.83100, 25=0.78240, 50=0.74980, 130=0.71723, 260=0.65200, 520=0.58681, 1040=0.52160, 2600=0.47270 (USD); Mount: Through Hole,Horizontal; Number of Pins: 8; Features: Shielded; Packaging: Tray; Orientation: Horizontal; Lead Free: Lead Free; ComponentLink1URL: https://www.cui.com/product/resource/digikeypdf/uj2-adh-th.pdf?src-supplier=Mouser; ComponentLink1Description: https://www.cui.com/product/resource/digikeypdf/uj2-adh-th.pdf?src-supplier=Mouser; ComponentLink2URL: https://www.cui.com/product/resource/digikeypdf/uj2-adh-th.pdf?src-supplier=Verical; ComponentLink2Description: https://www.cui.com/product/resource/digikeypdf/uj2-adh-th.pdf?src-supplier=Verical; ComponentLink3URL: https://www.cui.com/product/resource/digikeypdf/uj2-adh-th.pdf?src-supplier=Onlinecomponents.com; ComponentLink3Description: https://www.cui.com/product/resource/digikeypdf/uj2-adh-th.pdf?src-supplier=Onlinecomponents.com; ComponentLink4URL: https://www.cui.com/product/resource/digikeypdf/uj2-adh-th.pdf?src-supplier=Digi-Key; ComponentLink4Description: https://www.cui.com/product/resource/digikeypdf/uj2-adh-th.pdf?src-supplier=Digi-Key; ComponentLink5URL: https://www.cui.com/product/resource/digikeypdf/uj2-adh-th.pdf?src-supplier=Arrow+Electronics; ComponentLink5Description: https://www.cui.com/product/resource/digikeypdf/uj2-adh-th.pdf?src-supplier=Arrow+Electronics; ComponentLink6URL: https://www.cui.com/product/resource/digikeypdf/uj2-adh-th.pdf?src-supplier=Electro+Sonic; ComponentLink6Description: https://www.cui.com/product/resource/digikeypdf/uj2-adh-th.pdf?src-supplier=Electro+Sonic; ComponentLink7URL: https://www.cui.com/product/resource/digikeypdf/uj2-adh-th.pdf?src-supplier=NAC+Semi; ComponentLink7Description: https://www.cui.com/product/resource/digikeypdf/uj2-adh-th.pdf?src-supplier=NAC+Semi
footprint UJ2-ADH-1-TH
pins: S1 SHIELD1 "Default Function: MIPI_VDDA_1P8", S2 SHIELD2 "Default Function: MIPI_VDDA_1P8", S3 SHIELD3 "Default Function: MIPI_VDDA_1P8", S4 SHIELD4 "Default Function: MIPI_VDDA_1P8", U1_1 VCC "Default Function: MIPI_VDDA_1P8", U1_2 D- "Default Function: MIPI_VDDA_1P8", U1_3 D+ "Default Function: MIPI_VDDA_1P8", U1_4 GND "Default Function: MIPI_VDDA_1P8", U2_1 VCC "Default Function: MIPI_VDDA_1P8", U2_2 D- "Default Function: MIPI_VDDA_1P8", U2_3 D+ "Default Function: MIPI_VDDA_1P8", U2_4 GND "Default Function: MIPI_VDDA_1P8"